# EAGLE library part 74AC02SC (library Fairchild_By_element14_Batch_1)
Quad 2-Input NOR Gate
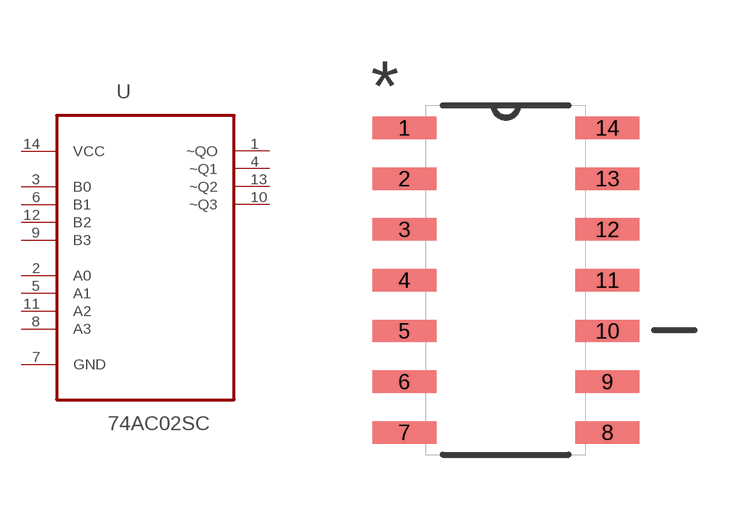
[diagram p6: symbol with the pads of SOIC127P600X175-14N; footprint SOIC127P600X175-14N]

Designator prefix U

## 74AC02SC (MPN: 74AC02SC; OC_FARNELL: 1014156; OC_NEWARK: 78K6196; PACKAGE: SOIC-14; SUPPLIER: Fairchild)  [SOIC127P600X175-14N]
1  ~QO  out
2  A0  in
3  B0  in
4  ~Q1  out
5  A1  in
6  B1  in
7  GND  pas
8  A3  in
9  B3  in
10  ~Q3  out
11  A2  in
12  B2  in
13  ~Q2  out
14  VCC  pwr

## Footprint SOIC127P600X175-14N (pad centres in mm)
smd 1.6 x 0.559: 1 -2.54,3.81; 2 -2.54,2.54; 3 -2.54,1.27; 4 -2.54,0; 5 -2.54,-1.27; 6 -2.54,-2.54; 7 -2.54,-3.81; 8 2.54,-3.81; 9 2.54,-2.54; 10 2.54,-1.27; 11 2.54,0; 12 2.54,1.27; 13 2.54,2.54; 14 2.54,3.81